# Altium footprint library SOP65P300X125-8N.PcbLib: 1 footprints
Each footprint in its own frame and in the unit in brackets; x right, y up, seen from the top. Pads: shape width x height; smd on the part's side, far side on the other; paste and mask are expansions set on the pad; w line width, h text height; cw(c..) or ccw(c..) is an arc to the next point about the centre after c.
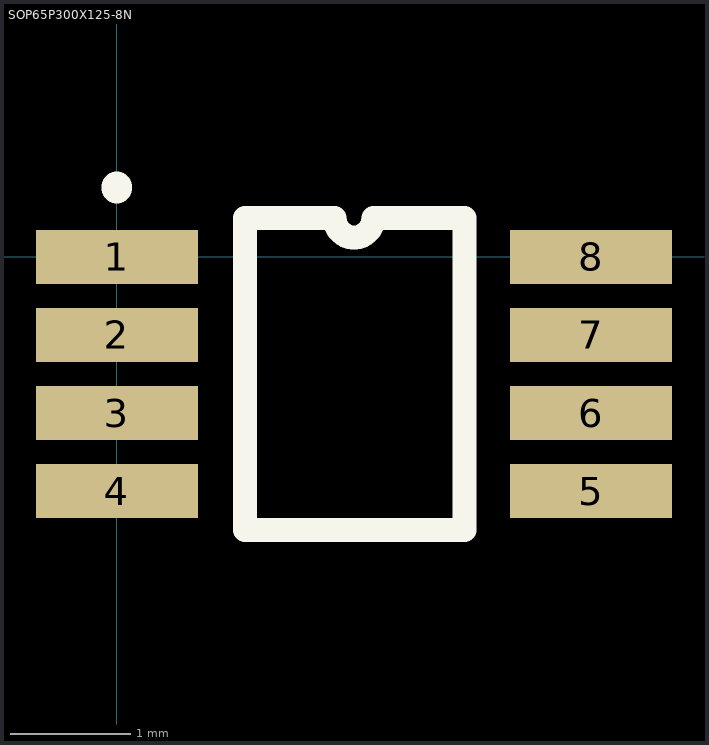
[diagram p0: the footprint, top view; thin cyan lines are the x and y axes]

## SOP65P300X125-8N [mm] "SOP + Pitch P + Lead Span Nominal X Height - #Pins"
height 1.25
pads (8):
  rect 1.35x0.45 smd: 1(0,0) 2(0,-0.65) 3(0,-1.3) 4(0,-1.95) 5(3.95,-1.95) 6(3.95,-1.3) 7(3.95,-0.65) 8(3.95,0)
Top Overlay:
  lines w0.2: 1.067,-2.275 1.067,0.325 1.813,0.325 ccw(c1.975,0.325) 2.137,0.325 2.896,0.325 2.896,-2.275 1.067,-2.275
  lines w0.254: -0.002,0.573 ccw(c-0.036,0.584) 0,0.584
3D body "RM_8.stp": height 0.95, standoff 0, extent -0.644,-2.465 4.506,0.535